# Altium schematic symbol library Schematic_IC_Power_Management.SchLib: 13 symbols
Pins are listed as number, name and electrical type; pins without a type are passive.

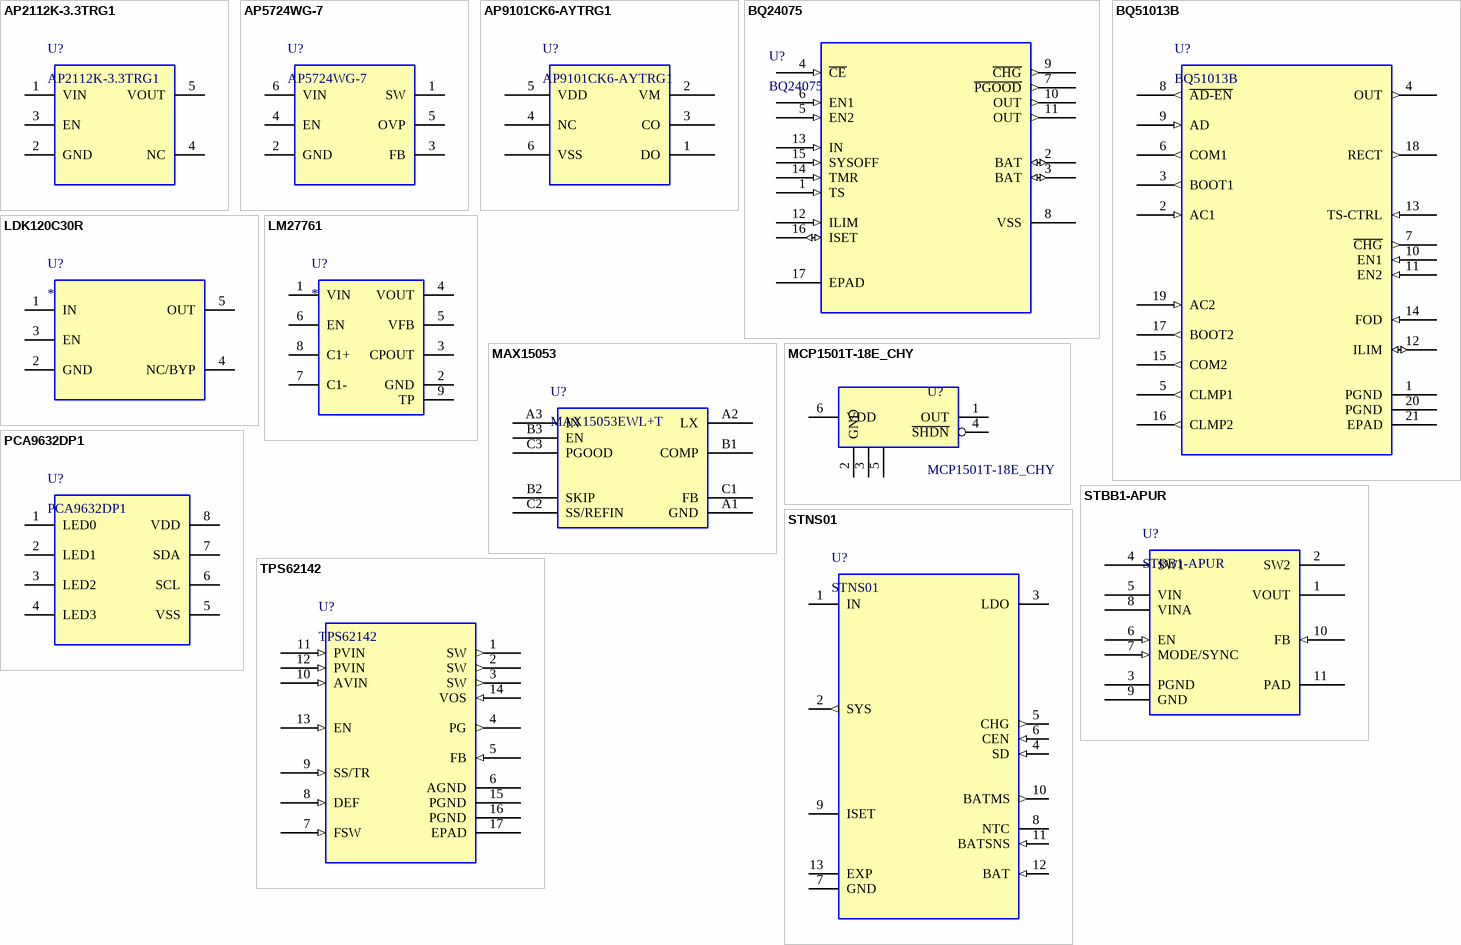
[diagram p0: symbols AP2112K-3.3TRG1 to TPS62142]

## AP2112K-3.3TRG1
designator U?
IC REG LINEAR 3.3V 600MA SOT25; Manufacturer 1: Diodes; Number of Regulators: 1; Dropout Voltage: 250mV; Max Input Voltage: 6V; Polarity: Positive; Accuracy: 1.5%; Output Type: Fixed; Quiescent Current: 55uA; Min Input Voltage: 2.5V; Supplier 1: Digi-Key; Manufacturer Part Number 1: AP2112K-3.3TRG1; Stock 1: 82828; Pricing 1: 1=0.49000, 10=0.36500, 25=0.32960, 100=0.17970, 250=0.17372, 500=0.15574, 1000=0.11980 (USD); RoHS: Yes; Mount: Surface Mount; Case/Package: SOT-23-5; Number of Pins: 5; Min Operating Temperature: -40°C; Max Operating Temperature: 85°C; Packaging: Tape and Reel; Output Voltage: 3.3V; Output Current: 600mA; Number of Outputs: 1; Package Quantity: 1; Max Output Current: 600mA; Length: 3.1mm; Height: 1.3mm; Width: 1.7mm; Lead Free: Lead Free; ComponentLink1URL: https://datasheet.ciiva.com/30016/ap2112-30016792.pdf?src-supplier=Avnet; ComponentLink1Description: https://datasheet.ciiva.com/30016/ap2112-30016792.pdf?src-supplier=Avnet; ComponentLink2URL: https://datasheet.ciiva.com/29569/ap2112-29569917.pdf?src-supplier=Digi-Key; ComponentLink2Description: https://datasheet.ciiva.com/29569/ap2112-29569917.pdf?src-supplier=Digi-Key; ComponentLink3URL: https://datasheet.ciiva.com/29569/ap2112-29569918.pdf?src-supplier=Digi-Key; ComponentLink3Description: https://datasheet.ciiva.com/29569/ap2112-29569918.pdf?src-supplier=Digi-Key; ComponentLink4URL: https://datasheet.ciiva.com/29569/ap2112-29569919.pdf?src-supplier=Digi-Key; ComponentLink4Description: https://datasheet.ciiva.com/29569/ap2112-29569919.pdf?src-supplier=Digi-Key
footprint SOT95P285X130-5L (SOT23, 5-Leads, Body 3.00x2.85mm, Pitch 0.95mm, IPC High Density)
pins: 1 VIN, 2 GND, 3 EN, 4 NC, 5 VOUT

## AP5724WG-7
designator U?
IC LED DRIVER RGLTR DIM SOT26; Manufacturer 1: Diodes; Min Supply Voltage: 2.7V; Max Supply Voltage: 5.5V; Number of Outputs: 1; Frequency: 1.2MHz; Number of Segments: 6; Topology: Boost; Output Current per Channel: 750mA; Dimming: PWM; Supplier 1: Digi-Key; Manufacturer Part Number 1: AP5724WG-7; Stock 1: 117482; Pricing 1: 1=0.59000, 10=0.50700, 100=0.35150, 500=0.28392, 1000=0.20956 (USD); RoHS: Yes; Mount: Surface Mount; Case/Package: SOT-26; Number of Pins: 6; Weight: 0.001058oz; Min Operating Temperature: -40°C; Max Operating Temperature: 85°C; Packaging: Tape and Reel; Package Quantity: 3000; Length: 3mm; Height: 1.2mm; Width: 1.7mm; Radiation Hardening: No; REACH SVHC: No SVHC; Lead Free: Lead Free; ComponentLink1URL: https://datasheet.ciiva.com/15135/getdatasheetpartid-661617-15135751.pdf?src-supplier=Verical; ComponentLink1Description: https://datasheet.ciiva.com/15135/getdatasheetpartid-661617-15135751.pdf?src-supplier=Verical; ComponentLink2URL: https://datasheet.ciiva.com/1944/ap5724-1944699.pdf?src-supplier=Digi-Key; ComponentLink2Description: https://datasheet.ciiva.com/1944/ap5724-1944699.pdf?src-supplier=Digi-Key; ComponentLink3URL: https://datasheet.ciiva.com/17405/ap5724-17405291.pdf?src-supplier=Avnet+Europe; ComponentLink3Description: https://datasheet.ciiva.com/17405/ap5724-17405291.pdf?src-supplier=Avnet+Europe
footprint SOT95P285X130-6L (SOT23, 6-Leads, Body 3.00x2.85mm, Pitch 0.95mm, IPC High Density)
pins: 1 SW, 2 GND, 3 FB, 4 EN, 5 OVP, 6 VIN

## AP9101CK6-AYTRG1
designator U?
BATTERY PROTECTION IC; Manufacturer: Diodes; Supplier 1: Digi-Key; Manufacturer Part Number: AP9101CK6-AYTRG1; RoHS: No; Stock 1: 3536; Pricing 1: 1=0.45000, 10=0.36700, 100=0.24960, 500=0.18720, 1000=0.14040 (USD)
footprint SOT95P285X130-6L (SOT23, 6-Leads, Body 3.00x2.85mm, Pitch 0.95mm, IPC High Density)
pins: 1 DO, 2 VM, 3 CO, 4 NC, 5 VDD, 6 VSS

## BQ24075
designator U?
USB-Friendly Li-Ion Battery Charger and Power-Path Management IC, Vout 5.5V; Manufacturer: Texas Instruments; INDUSTRY_STD_PKG_TYPE: QFN; FAMILY_NAME: BATTERY CHARGE MANAGEMENT; PIN_COUNT: 16; PACKAGE_DESIGNATOR: RGT; Datasheet_URL: http://www.ti.com/lit/gpn/BQ24075; GENERIC_PART_NUMBER: BQ24075; Copyright: Copyright (C) 2018 Accelerated Designs. All rights reserved; RefDes: RefDes; Type: DEV; Value: Value; ComponentLink1Description: Datasheet; ComponentLink1URL: http://www.ti.com/lit/ds/symlink/bq24075.pdf
footprint QFN50P300X300X100_16N_HS170-5 (QFN, 16-Leads, Body 3.00x3.00mm, Pitch 0.50mm, Thermal Pad 1.68x1.68mm, IPC Medium Density)
pins: 1 TS (in), 2 BAT (io), 3 BAT (io), 4 ~{CE} (in), 5 EN2 (in), 6 EN1 (in), 7 ~{PGOOD} (out), 8 VSS (power), 9 ~{CHG} (out), 10 OUT (out), 11 OUT (out), 12 ILIM (in), 13 IN (in), 14 TMR (in), 15 SYSOFF (in), 16 ISET (io), 17 EPAD (power)

## BQ51013B
designator U?
IC WIRELESS PWR RCVR 20QFN; Manufacturer: Texas Instruments; Manufacturer Part Number: BQ51013BRHLT; Operating Supply Current: 8mA; Output Current: 1.5A; Output Voltage: 5V; Logic Function: Receiver; Min Supply Voltage: 4V; Max Supply Voltage: 10V; Output Power: 5W; Supplier 1: Digi-Key; RoHS: Yes; Category: Power Management ICs; Stock 1: 2654; Pricing 1: 1=4.02000, 10=3.58800, 25=3.22960, 100=2.94250 (USD); Mount: Surface Mount; Case/Package: VQFN; Number of Pins: 20; Weight: 0.002469oz; Contact Plating: Gold; Min Operating Temperature: -40°C; Max Operating Temperature: 150°C; Packaging: Tape and Reel; Package Quantity: 250; Length: 4.65mm; Height: 0.95mm; Width: 3.65mm; Lead Free: Lead Free; REACH SVHC: No SVHC; ComponentLink1URL: https://datasheet.ciiva.com/22691/1726308-22691764.pdf?src-supplier=Element14; ComponentLink1Description: https://datasheet.ciiva.com/22691/1726308-22691764.pdf?src-supplier=Element14; ComponentLink2URL: https://datasheet.ciiva.com/6602/bq51013b-6602583.pdf?src-supplier=Digi-Key; ComponentLink2Description: https://datasheet.ciiva.com/6602/bq51013b-6602583.pdf?src-supplier=Digi-Key; ComponentLink3URL: https://datasheet.ciiva.com/6602/bq51013b-6602581.pdf?src-supplier=Digi-Key; ComponentLink3Description: https://datasheet.ciiva.com/6602/bq51013b-6602581.pdf?src-supplier=Digi-Key; ComponentLink4URL: https://datasheet.ciiva.com/6602/bq51013b-6602582.pdf?src-supplier=Digi-Key; ComponentLink4Description: https://datasheet.ciiva.com/6602/bq51013b-6602582.pdf?src-supplier=Digi-Key
footprint QFN50P350X450X100-21N_HS200X300-6 (QFN, 20-Leads, Body 3.50x4.50mm, Pitch 1.50mm/0.50mm, Thermal Pad 2.05x3.05mm, IPC Medium Density)
pins: 1 PGND, 2 AC1 (in), 3 BOOT1 (out), 4 OUT (out), 5 CLMP1 (out), 6 COM1 (out), 7 ~{CHG} (out), 8 ~{AD-EN} (out), 9 AD (in), 10 EN1 (in), 11 EN2 (in), 12 ILIM (io), 13 TS-CTRL (in), 14 FOD (in), 15 COM2 (out), 16 CLMP2 (out), 17 BOOT2 (out), 18 RECT (out), 19 AC2 (in), 20 PGND, 21 EPAD

## LDK120C30R
designator U?
IC REG LDO 3V 0.2A SOT323-5; Manufacturer: STMicroelectronics; Manufacturer Part Number: LDK120C30R; Max Input Voltage: 5.5V; Output Current: 200mA; Number of Outputs: 1; Min Input Voltage: 1.9V; Dropout Voltage: 300mV; Operating Supply Current: 50uA; Polarity: Positive; Quiescent Current: 60uA; Accuracy: 2%; Mount: Surface Mount; Case/Package: SOT-323-5; Number of Pins: 5; Min Operating Temperature: -40°C; Max Operating Temperature: 125°C; Output Voltage: 3V; Packaging: Tape and Reel; Package Quantity: 1; Max Output Current: 200mA; Number of Regulators: 1; Tolerance: 2%; Lead Free: Lead Free; ComponentLink1URL: https://datasheet.ciiva.com/6591/dm00070790-6591173.pdf; ComponentLink1Description: https://datasheet.ciiva.com/6591/dm00070790-6591173.pdf; ComponentLink2URL: https://datasheet.ciiva.com/6591/dm00070790-6591175.pdf; ComponentLink2Description: https://datasheet.ciiva.com/6591/dm00070790-6591175.pdf; ComponentLink3URL: https://datasheet.ciiva.com/6591/dm00070790-6591177.pdf; ComponentLink3Description: https://datasheet.ciiva.com/6591/dm00070790-6591177.pdf; ComponentLink4URL: https://datasheet.ciiva.com/8228/dm00070790-8228636.pdf; ComponentLink4Description: https://datasheet.ciiva.com/8228/dm00070790-8228636.pdf; ComponentLink5URL: https://datasheet.ciiva.com/41439/001184872-da-01-en-ic-reg-ldo-3v-0-ldk120c30r-sot-323-5-stm-41439977.pdf; ComponentLink5Description: https://datasheet.ciiva.com/41439/001184872-da-01-en-ic-reg-ldo-3v-0-ldk120c30r-sot-323-5-stm-41439977.pdf
pins: 1 IN, 2 GND, 3 EN, 4 NC/BYP, 5 OUT

## LM27761
designator U?
Charge pump voltage inverter; Supplier 1: Digi-Key; Supplier Part Number 1: 296-43882-1-ND
footprint SON50P200X80_HS-9N (SON, 8-Leads, Body 2.00x2.00mm, Pitch 0.50mm, Thermal Pad 1.60x0.69mm, IPC Medium Density)
pins: 1 VIN, 2 GND, 3 CPOUT, 4 VOUT, 5 VFB, 6 EN, 7 C1-, 8 C1+, 9 TP

## MAX15053
designator U?, comment MAX15053EWL+T
Buck Switching Regulator IC Positive Adjustable 0.6V 1 Output 2A 9-WFBGA, WLBGA; Manufacturer 1: Maxim; Switching Frequency: 1MHz; Output Voltage: 5.17V; Min Input Voltage: 2.7V; Max Input Voltage: 5.5V; Number of Outputs: 1; Synchronous Rectifier: Yes; Supplier 1: Digi-Key; Manufacturer Part Number 1: MAX15053EWL+T; Stock 1: 2430; Pricing 1: 1=3.36000, 10=3.01500, 25=2.85040, 100=2.34380, 250=2.10304, 500=2.02704, 1000=1.68498 (USD); RoHS: Yes; Mount: Surface Mount; Number of Pins: 9; Min Operating Temperature: -40°C; Max Operating Temperature: 85°C; Max Output Current: 2A; Packaging: Tape and Reel; Operating Supply Voltage: 5.5V; Output Current: 2A; Package Quantity: 2500; Output Type: Adjustable; Radiation Hardening: No; ComponentLink1URL: https://datasheet.ciiva.com/17296/max15053-17296201.pdf?src-supplier=Avnet+Europe; ComponentLink1Description: https://datasheet.ciiva.com/17296/max15053-17296201.pdf?src-supplier=Avnet+Europe; ComponentLink2URL: https://datasheet.ciiva.com/3230/max15053-3230092.pdf?src-supplier=Avnet; ComponentLink2Description: https://datasheet.ciiva.com/3230/max15053-3230092.pdf?src-supplier=Avnet; ComponentLink3URL: https://datasheet.ciiva.com/3230/max15053-3230093.pdf?src-supplier=Avnet; ComponentLink3Description: https://datasheet.ciiva.com/3230/max15053-3230093.pdf?src-supplier=Avnet; ComponentLink4URL: https://datasheet.ciiva.com/14083/max15053-14083790.pdf?src-supplier=Digi-Key; ComponentLink4Description: https://datasheet.ciiva.com/14083/max15053-14083790.pdf?src-supplier=Digi-Key
pins: A1 GND, A2 LX, A3 IN, B1 COMP, B2 SKIP, B3 EN, C1 FB, C2 SS/REFIN, C3 PGOOD

## MCP1501T-18E_CHY
designator U?
Voltage References Precision Buffered Voltage Reference; Manufacturer_Name: Microchip; Manufacturer_Part_Number: MCP1501T-18E/CHY; Geometry.Height: 1.45mm; Mouser Part Number: 579-MCP1501T-18E/CHY; Mouser Price/Stock: https://www.mouser.com/Search/Refine.aspx?Keyword=579-MCP1501T-18E%2FCHY; RS Part Number: *; RS Price/Stock: *; Datasheet Link: http://ww1.microchip.com/downloads/en/DeviceDoc/20005474E.pdf; Supplier 1: Digi-Key; Supplier Part Number 1: MCP1501T-18E/CHYCT-ND
footprint SOT95P285X130-6L (SOT23, 6-Leads, Body 3.00x2.85mm, Pitch 0.95mm, IPC High Density)
pins: 1 OUT, 2 GND, 3 GND2, 4 ~{SHDN}, 5 GND3, 6 VDD

## PCA9632DP1
designator U?
IC LED DRIVER RGBA 8-TSSOP; Manufacturer 1: NXP Semiconductors; Manufacturer Part Number 1: PCA9632DP1,118; Low Level Output Current: 100mA; Number of Segments: 4; Max Power Dissipation: 400mW; Max Supply Current: 150uA; Max Supply Voltage: 5.5V; Min Supply Voltage: 2.3V; Frequency: 400kHz; Supplier 1: Digi-Key; Stock 1: 6770; Pricing 1: 1=1.37000, 10=1.22800, 100=0.95710, 500=0.79062, 1000=0.62418 (USD); RoHS: Yes; Mount: Surface Mount; Case/Package: TSSOP; Number of Pins: 8; Min Operating Temperature: -40°C; Max Operating Temperature: 85°C; Package Quantity: 1; Packaging: Tape and Reel; Power Dissipation: 400mW; Number of Outputs: 4; Nominal Supply Current: 150uA; Output Voltage: 5.5V; Radiation Hardening: No; Lead Free: Lead Free; ComponentLink1URL: https://datasheet.ciiva.com/1945/pca9632-1945011.pdf?src-supplier=Digi-Key; ComponentLink1Description: https://datasheet.ciiva.com/1945/pca9632-1945011.pdf?src-supplier=Digi-Key; ComponentLink2URL: https://datasheet.ciiva.com/1945/pca9632-1945012.pdf?src-supplier=Digi-Key; ComponentLink2Description: https://datasheet.ciiva.com/1945/pca9632-1945012.pdf?src-supplier=Digi-Key; ComponentLink3URL: https://datasheet.ciiva.com/1945/pca9632-1945013.pdf?src-supplier=Digi-Key; ComponentLink3Description: https://datasheet.ciiva.com/1945/pca9632-1945013.pdf?src-supplier=Digi-Key
footprint TSOP65P490X110-8L (TSSOP, 8-Leads, Body 3.00x3.00mm, Pitch 0.65mm, IPC High Density)
pins: 1 LED0, 2 LED1, 3 LED2, 4 LED3, 5 VSS, 6 SCL, 7 SDA, 8 VDD

## STBB1-APUR
designator U?
IC REG BUCK BST ADJ 1.6A 10VDFPN; Manufacturer: STMicroelectronics; Output Voltage: 5.5V; Switching Frequency: 1.5MHz; Max Output Current: 1A; Number of Outputs: 1; Min Input Voltage: 2V; Efficiency: 94%; ESR (Equivalent Series Resistance): 1.1R; Min Output Voltage: 1.2V; Synchronous Rectifier: Yes; Topology: Buck-Boost; Output Type: Adjustable; Output Configuration: Positive; Supplier 1: Digi-Key; Manufacturer Part Number: STBB1-APUR; RoHS: Yes; Category: Power Supply Modules; Stock 1: 17647; Pricing 1: 1=2.41000, 10=2.16700, 25=2.04440, 100=1.63560, 250=1.43120, 500=1.39030, 1000=1.10406 (USD); Mount: Surface Mount; Case/Package: DFN; Number of Pins: 10; Min Operating Temperature: -40°C; Max Operating Temperature: 85°C; Output Current: 1A; Packaging: Tape and Reel; Package Quantity: 3000; Max Input Voltage: 5.5V; Max Output Voltage: 5.5V; Depth: 2.79mm; Radiation Hardening: No; REACH SVHC: No SVHC; Lead Free: Lead Free; ComponentLink1URL: https://datasheet.ciiva.com/4905/dm00037824-100434-4905363.pdf?src-supplier=Mouser; ComponentLink1Description: https://datasheet.ciiva.com/4905/dm00037824-100434-4905363.pdf?src-supplier=Mouser; ComponentLink2URL: https://datasheet.ciiva.com/16376/dm00037824-16376180.pdf?src-supplier=Future+Electronics; ComponentLink2Description: https://datasheet.ciiva.com/16376/dm00037824-16376180.pdf?src-supplier=Future+Electronics; ComponentLink3URL: https://datasheet.ciiva.com/41458/001184645-da-01-en-ic-reg-buck-bst-sy-stbb1-apur-dfn-10-stm-41458199.pdf?src-supplier=Conrad; ComponentLink3Description: https://datasheet.ciiva.com/41458/001184645-da-01-en-ic-reg-buck-bst-sy-stbb1-apur-dfn-10-stm-41458199.pdf?src-supplier=Conrad; ComponentLink4URL: https://datasheet.ciiva.com/2026/dm00037824-2026288.pdf?src-supplier=Digi-Key; ComponentLink4Description: https://datasheet.ciiva.com/2026/dm00037824-2026288.pdf?src-supplier=Digi-Key; ComponentLink5URL: https://datasheet.ciiva.com/30015/cwr16-30015662.pdf?src-supplier=Avnet; ComponentLink5Description: https://datasheet.ciiva.com/30015/cwr16-30015662.pdf?src-supplier=Avnet
footprint DFN50P300X300X80-10N_HS240X150 (DFN, 10-Leads, Body 3.00x3.00mm, Pitch 0.50mm, Thermal Pad 2.40x1.50mm, IPC Medium Density)
pins: 1 VOUT, 2 SW2, 3 PGND (power), 4 SW1, 5 VIN (power), 6 EN (in), 7 MODE/SYNC (in), 8 VINA (power), 9 GND (power), 10 FB (in), 11 PAD (power)

## STNS01
designator U?
Battery Charger Li-Ion 200mA with LDO 100mA 12-Pin DFN EP T/R; Supplier 1: Arrow
pins: 1 IN (power), 2 SYS (out), 3 LDO (power), 4 SD (in), 5 CHG (out), 6 CEN (in), 7 GND (power), 8 NTC, 9 ISET, 10 BATMS (out), 11 BATSNS (in), 12 BAT (in), 13 EXP

## TPS62142
designator U?
IC REG BUCK SYNC 3.3V 2A 16QFN; Manufacturer: Texas Instruments; Manufacturer Part Number: TPS62142RGTR; Number of Outputs: 1; Max Input Voltage: 17V; Min Input Voltage: 3V; Switching Frequency: 2.5MHz; Synchronous Rectifier: Yes; Quiescent Current: 17uA; Output Type: Fixed; Output Configuration: Positive; Supplier 1: Digi-Key; RoHS: Yes; Category: Power Supply Modules; Stock 1: 37797; Pricing 1: 1=2.08000, 10=1.87200, 25=1.76640, 100=1.41320, 250=1.23652, 500=1.20118, 1000=0.95388 (USD); Case/Package: QFN; Number of Pins: 16; Contact Plating: Gold; Min Operating Temperature: -40°C; Max Operating Temperature: 125°C; Output Voltage: 3.3V; Output Current: 2A; Packaging: Tape and Reel; Package Quantity: 3000; Max Output Current: 2A; Min Output Voltage: 3.3V; Max Output Voltage: 3.3V; Operating Supply Voltage: 17V; Lead Free: Lead Free; ComponentLink1URL: https://datasheet.ciiva.com/2034/tps62140-2034959.pdf?src-supplier=Digi-Key; ComponentLink1Description: https://datasheet.ciiva.com/2034/tps62140-2034959.pdf?src-supplier=Digi-Key
footprint QFN50P300X300X100_16N_HS170-5 (QFN, 16-Leads, Body 3.00x3.00mm, Pitch 0.50mm, Thermal Pad 1.68x1.68mm, IPC Medium Density)
pins: 1 SW (out), 2 SW (out), 3 SW (out), 4 PG (out), 5 FB (in), 6 AGND (power), 7 FSW (in), 8 DEF (in), 9 SS/TR (in), 10 AVIN (in), 11 PVIN (in), 12 PVIN (in), 13 EN (in), 14 VOS (in), 15 PGND (power), 16 PGND (power), 17 EPAD